# Altium schematic symbol library StandartComponents.SchLib: 23 symbols
Pins are listed as number, name and electrical type; pins without a type are passive.

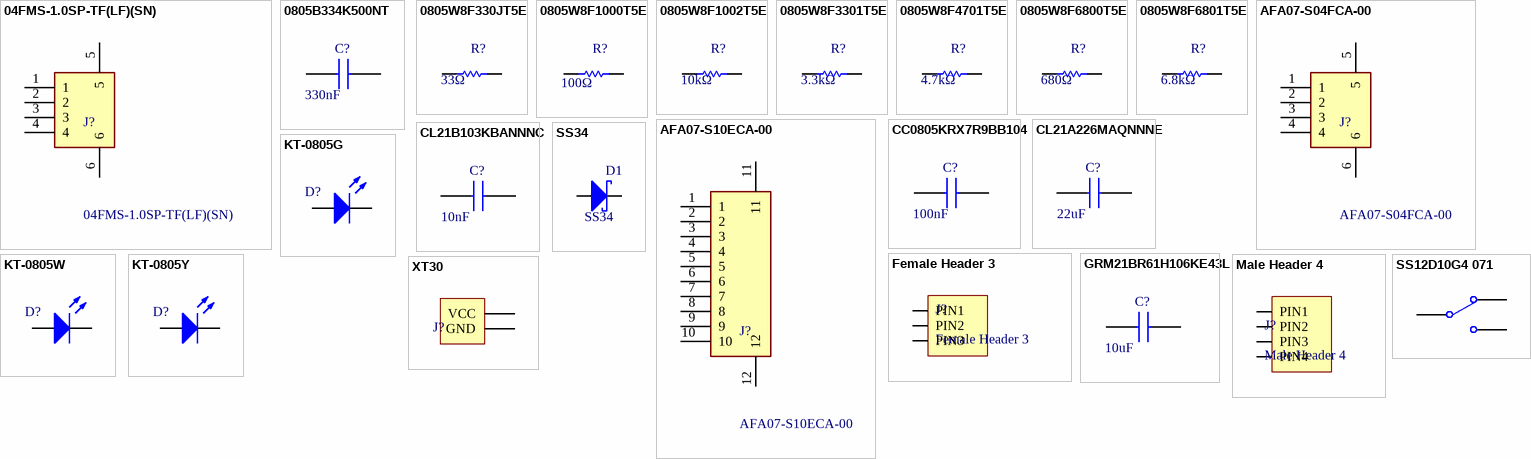
[diagram p0: symbols 04FMS-1.0SP-TF(LF)(SN) to XT30]

## 04FMS-1.0SP-TF(LF)(SN)
designator J?
Drawer Type 4P Dual-sided contacts / top and bottom connection Horizontal attachment 1mm SMD,P=1mm,Surface Mount，Right Angle FFC, FPC (Flat Flexible) Connector Assemblies ROHS; Manufacturer_Name: JST; Geometry.Height: 2.80mm; Manufacturer_Part_Number: 04FMS-1.0SP-TF(LF)(SN); LCSC: C265033; ComponentLink1Description: JLCPCB; ComponentLink1URL: https://jlcpcb.com/partdetail/Jst-04FMS_1_0SP_TF_LF_SN/C265033; ComponentLink2Description: Datasheet; ComponentLink2URL: https://www.lcsc.com/datasheet/lcsc_datasheet_1811061308_JST-04FMS-1-0SP-TF-LF-SN_C265033.pdf
footprint FPC-SMD-P1.00-4P_JST
pins: 1, 2, 3, 4, 5, 6

## 0805B334K500NT
designator C?  value 330nF  (hidden comment: 0805B334K500NT)
50V 330nF X7R ±10% 0805 Multilayer Ceramic Capacitors MLCC - SMD/SMT ROHS; Manufacturer: FH (Guangdong Fenghua Advanced Tech); Geometry.Height: 0.95mm; Part Number: 0805B334K500NT; LCSC: C1740; ComponentLink1Description: Datasheet; ComponentLink1URL: https://www.lcsc.com/datasheet/lcsc_datasheet_2304140030_FH--Guangdong-Fenghua-Advanced-Tech-0805B334K500NT_C1740.pdf; ComponentLink2Description: JLCPCB; ComponentLink2URL: https://jlcpcb.com/partdetail/2092-0805B334K500NT/C1740; Rated Voltage: 50V
footprint CAP0805
pins: 1, 2

## 0805W8F330JT5E
designator R?  value 33Ω  (hidden comment: 0805W8F330JT5E)
125mW Thick Film Resistors 150V ±1% ±200ppm/℃ 33Ω 0805 Chip Resistor - Surface Mount ROHS; Manufacturer_Name: UNI-ROYAL; Geometry.Height: 0.95mm; Part Number: 0805W8F330JT5E; LCSC: C17634; ComponentLink1Description: Datasheet Link; ComponentLink1URL: https://www.lcsc.com/datasheet/lcsc_datasheet_2205311830_UNI-ROYAL-Uniroyal-Elec-0805W8F330JT5E_C17634.pdf
footprint RES0805
pins: 1, 2

## 0805W8F1000T5E
designator R?  value 100Ω  (hidden comment: 0805W8F1000T5E)
125mW Thick Film Resistors 150V ±100ppm/℃ ±1% 100Ω 0805 Chip Resistor - Surface Mount ROHS; Manufacturer_Name: UNI-ROYAL; Geometry.Height: 0.95mm; Manufacturer_Part_Number: 0805W8F1000T5E; Datasheet Link: https://wmsc.lcsc.com/wmsc/upload/file/pdf/v2/lcsc/2206010216_UNI-ROYAL-Uniroyal-Elec-0805W8F1000T5E_C17408.pdf; LCSC: C17408
footprint RES0805
pins: 1, 2

## 0805W8F1002T5E
designator R?  value 10kΩ  (hidden comment: 0805W8F1002T5E)
125mW Thick Film Resistors 150V ±100ppm/℃ ±1% 10kΩ 0805 Chip Resistor - Surface Mount ROHS; Manufacturer_Name: UNI-ROYAL; Geometry.Height: 0.95mm; Manufacturer_Part_Number: 0805W8F1002T5E; Datasheet Link: https://wmsc.lcsc.com/wmsc/upload/file/pdf/v2/lcsc/2206010216_UNI-ROYAL-Uniroyal-Elec-0805W8F1002T5E_C17414.pdf; LCSC: C17414
footprint RES0805
pins: 1, 2

## 0805W8F3301T5E
designator R?  value 3.3kΩ  (hidden comment: 0805W8F3301T5E)
125mW Thick Film Resistors 150V ±100ppm/℃ ±1% 3.3kΩ 0805 Chip Resistor - Surface Mount ROHS; Manufacturer_Name: UNI-ROYAL; Geometry.Height: 0.95mm; Manufacturer_Part_Number: 0805W8F3301T5E; Datasheet Link: https://wmsc.lcsc.com/wmsc/upload/file/pdf/v2/lcsc/2206010045_UNI-ROYAL-Uniroyal-Elec-0805W8F3301T5E_C26010.pdf; LCSC: C26010
footprint RES0805
pins: 1, 2

## 0805W8F4701T5E
designator R?  value 4.7kΩ  (hidden comment: 0805W8F4701T5E)
125mW Thick Film Resistors 150V ±100ppm/℃ ±1% 4.7kΩ 0805 Chip Resistor - Surface Mount ROHS; Manufacturer_Name: UNI-ROYAL; Geometry.Height: 0.95mm; Manufacturer_Part_Number: 0805W8F4701T5E; Datasheet Link: https://wmsc.lcsc.com/wmsc/upload/file/pdf/v2/lcsc/2206010200_UNI-ROYAL-Uniroyal-Elec-0805W8F4701T5E_C17673.pdf; LCSC: C17673
footprint RES0805
pins: 1, 2

## 0805W8F6800T5E
designator R?  value 680Ω  (hidden comment: 0805W8F6800T5E)
125mW Thick Film Resistors 150V ±100ppm/℃ ±1% 680Ω 0805 Chip Resistor - Surface Mount ROHS; Manufacturer_Name: UNI-ROYAL; Geometry.Height: 0.95mm; Part Number: 0805W8F6800T5E; LCSC: C17798; ComponentLink1Description: Datasheet Link; ComponentLink1URL: https://www.lcsc.com/datasheet/lcsc_datasheet_2205311830_UNI-ROYAL-Uniroyal-Elec-0805W8F6800T5E_C17798.pdf
footprint RES0805
pins: 1, 2

## 0805W8F6801T5E
designator R?  value 6.8kΩ  (hidden comment: 0805W8F6801T5E)
125mW Thick Film Resistors 150V ±100ppm/℃ ±1% 6.8kΩ 0805 Chip Resistor - Surface Mount ROHS; Manufacturer_Name: UNI-ROYAL; Geometry.Height: 0.95mm; Part Number: 0805W8F6801T5E; Datasheet Link: https://wmsc.lcsc.com/wmsc/upload/file/pdf/v2/lcsc/2205311830_UNI-ROYAL-Uniroyal-Elec-0805W8F6801T5E_C17772.pdf; LCSC: C17772; ComponentLink1Description: Datasheet Link; ComponentLink1URL: https://wmsc.lcsc.com/wmsc/upload/file/pdf/v2/lcsc/2205311830_UNI-ROYAL-Uniroyal-Elec-0805W8F6801T5E_C17772.pdf
footprint RES0805
pins: 1, 2

## AFA07-S04FCA-00
designator J?
Drawer Type 4P Bottom Contact Horizontal attachment 1mm SMD,P=1mm,Surface Mount，Right Angle FFC, FPC (Flat Flexible) Connector Assemblies ROHS; Manufacturer_Name: JUSHUO; Geometry.Height: 2.50mm; Manufacturer_Part_Number: AFA07-S04FCA-00; Datasheet Link: https://www.lcsc.com/datasheet/lcsc_datasheet_2304140030_JUSHUO-AFA07-S04FCA-00_C262710.pdf; LCSC: C262710
footprint FPC-SMD-P1.00-4P_LCS-XJ-H2.5
pins: 1, 2, 3, 4, 5, 6

## AFA07-S10ECA-00
designator J?
Drawer Type 10P Contact,Top Horizontal attachment 1mm SMD,P=1mm,Surface Mount，Right Angle FFC, FPC (Flat Flexible) Connector Assemblies ROHS; Manufacturer_Name: JUSHUO; Geometry.Height: 2.50mm; Manufacturer_Part_Number: AFA07-S10ECA-00; Datasheet Link: https://wmsc.lcsc.com/wmsc/upload/file/pdf/v2/lcsc/2304140030_JUSHUO-AFA07-S10ECA-00_C262737.pdf; LCSC: C262737
footprint FPC-SMD-P1.00-10P_LCS-SJ-H2.5 (Drawer Type 10P Contact,Top Horizontal attachment 1mm SMD,P=1mm,Surface Mount，Right Angle FFC, FPC (Flat Flexible) Connector Assemblies ROHS)
pins: 1, 2, 3, 4, 5, 6, 7, 8, 9, 10, 11, 12

## CC0805KRX7R9BB104
designator C?  value 100nF  (hidden comment: CC0805KRX7R9BB104)
Multilayer Ceramic Capacitors MLCC - SMD/SMT 50 V 0.1uF X7R 0805 10%; Manufacturer_Name: YAGEO; Geometry.Height: 0.95mm; Manufacturer_Part_Number: CC0805KRX7R9BB104; Datasheet Link: https://www.yageo.com/upload/media/product/productsearch/datasheet/mlcc/UPY-GPHC_X7R_6.3V-to-50V_20.pdf; LCSC: C49678
footprint CAP0805
pins: 1, 2

## CL21A226MAQNNNE
designator C?  value 22uF  (hidden comment: CL21A226MAQNNNE)
25V 22uF X5R ±20% 0805 Multilayer Ceramic Capacitors MLCC - SMD/SMT ROHS; Manufacturer_Name: Samsung Electro-Mechanics; Geometry.Height: 0.95mm; Manufacturer_Part_Number: CL21A226MAQNNNE; LCSC: C45783; ComponentLink1Description: JLCPCB; ComponentLink1URL: https://jlcpcb.com/partdetail/46786-CL21A226MAQNNNE/C45783; ComponentLink2Description: Datasheet; ComponentLink2URL: https://www.lcsc.com/datasheet/lcsc_datasheet_2304140030_Samsung-Electro-Mechanics-CL21A226MAQNNNE_C45783.pdf
footprint CAP0805
pins: 1, 2

## CL21B103KBANNNC
designator C?  value 10nF  (hidden comment: CL21B103KBANNNC)
Multilayer Ceramic Capacitors MLCC - SMD/SMT 50 V 10nF X7R 0805 10%; Manufacturer_Name: YAGEO; Geometry.Height: 0.95mm; Manufacturer_Part_Number: CL21B103KBANNNC; Datasheet Link: https://wmsc.lcsc.com/wmsc/upload/file/pdf/v2/lcsc/2304140030_Samsung-Electro-Mechanics-CL21B103KBANNNC_C1710.pdf; LCSC: C1710
footprint CAP0805
pins: 1, 2

## Female Header 3
designator J?
Number of Contacts: 3; System: Connector
footprint FEMALE HEADER 3
pins: PIN1, PIN2, PIN3

## GRM21BR61H106KE43L
designator C?  value 10uF  (hidden comment: GRM21BR61H106KE43L)
50V 10uF X5R ±10% 0805 Multilayer Ceramic Capacitors MLCC - SMD/SMT ROHS; Manufacturer: Murata Electronics; Geometry.Height: 0.95mm; Part Number: GRM21BR61H106KE43L; LCSC: C440198; ComponentLink1Description: Datasheet; ComponentLink1URL: https://www.lcsc.com/datasheet/lcsc_datasheet_2310251059_Murata-Electronics-GRM21BR61H106KE43L_C440198.pdf; ComponentLink2Description: JLCPCB; ComponentLink2URL: https://jlcpcb.com/partdetail/439567-GRM21BR61H106KE43L/C440198; Rated Voltage: 50V
footprint CAP0805
pins: 1, 2

## KT-0805G
designator D?
Emerald 0805 LED Indication - Discrete ROHS; Manufacturer: Hubei KENTO Elec; Color: Green; Current - Forward (If): 20mA; Voltage - Forward (Vf): 2.6V; LCSC: C2297; Package / Case: 0805; ComponentLink2Description: Datasheet; ComponentLink2URL: https://www.lcsc.com/datasheet/lcsc_datasheet_1806151129_Hubei-KENTO-Elec-KT-0805Y_C2296.pdf
footprint LED0805
pins: A, K

## KT-0805W
designator D?
0805 LED Indication - Discrete ROHS; Manufacturer: Hubei KENTO Elec; Color: White; Current - Forward (If): 25mA; Voltage - Forward (Vf): 2.8V; LCSC: C34499; Package / Case: 0805; ComponentLink2Description: Datasheet; ComponentLink2URL: https://www.lcsc.com/datasheet/lcsc_datasheet_2305091500_Hubei-KENTO-Elec-KT-0805W_C34499.pdf; ComponentLink3Description: JLCPCB; ComponentLink3URL: https://jlcpcb.com/partdetail/Hubei_KentoElec-KT0805W/C34499
footprint LED0805
pins: A, K

## KT-0805Y
designator D?
Yellow 0805 LED Indication - Discrete ROHS; Manufacturer: Hubei KENTO Elec; Current - Forward (If): 20mA; Voltage - Forward (Vf): 2.1V; LCSC: C2296; Package / Case: 0805; Color: Yellow; ComponentLink2Description: Datasheet; ComponentLink2URL: https://www.lcsc.com/datasheet/lcsc_datasheet_1806151129_Hubei-KENTO-Elec-KT-0805Y_C2296.pdf
footprint LED0805
pins: A, K

## Male Header 4
designator J?
Number of Contacts: 4; Library Ref: Header
footprint MALE HEADER 4
pins: PIN1, PIN2, PIN3, PIN4

## SS12D10G4 071
designator SW?  (value not drawn)
Manufacturer: SHOU HAN(首韩); LSCS: C2887259; Add into BOM: yes; Circuit: SPDT; Pin Style: PCPin; Switch Length: 12.7mm; Switch Width: 6.7mm; Switch Height: 6.4mm; Current Rating (DC): 2A; Voltage Rating (DC): 125V; Mechanical Life: 3千次; Symbol: SS12D10G4 071; Device: SS12D10G4 071; LCSC Part Name: SS12D10G4 071; Manufacturer Part: SS12D10G4 071; Supplier Footprint: 插件; JLCPCB Part Class: Extended Part; Datasheet: https://atta.szlcsc.com/upload/public/pdf/source/20210820/80D1704BBF3FCEE0435FCAA54C61E0A3.pdf; Supplier: LCSC; Convert to PCB: yes; Actuator Style: -; Mounting Style: Straight; Actuator Color: -; Current Rating (AC): -; Voltage Rating (AC): -; Operating Temperature: -16℃~+60℃
footprint SW-TH_SHOU-HAN_SS12D10G4
pins: 1, 2 COMMON, 3 NO

## SS34
designator D1
40V Independent Type 3A 550mV@3A SMA(DO-214AC) Schottky Diodes ROHS; Manufacturer: MDD(Microdiode Semiconductor); Max Forward Surge Current (Ifsm): 80 A; Current - Reverse Leakage @ Vr: 500 mA; Voltage - Forward (Vf) (Max) @ If: 550 mV; Diode Type: Schottky Barrier Rectifier; Part Number: SS34; Category: Schottky Diodes & Rectifiers; Package / Case: SMA(DO-214AC); Current - Average Rectified (Io): 3 A; Operating Temperature: - 55ºC ~ 125ºC; Voltage - DC Reverse (Vr) (Max): 40 V; ComponentLink1Description: JLCPCB; ComponentLink1URL: https://jlcpcb.com/partdetail/mdd_microdiode_semiconductor-SS34/C8678; ComponentLink2Description: Datasheet; ComponentLink2URL: https://www.lcsc.com/datasheet/lcsc_datasheet_2407101107_MDD-Microdiode-Semiconductor-SS34_C8678.pdf
footprint SMA_L4.3-W2.6-LS5.2-RD
pins: A, C

## XT30
designator J?, comment BATTERY  (value not drawn)
CONN BATTERY HORZ 2POS XT30; Library Control - Checked Footprint: Under review; Library Control - Checked Schematic: Yes; Library Control - Last Project that Used: Follow-Final; Library Control - Person that Checked Footprint: Lucas; Library Control - Person that did the Last Update Footprint: Mateus(Dimas); Library Control - Last Update: 24/04/2021 00:25; Library Control - Person that Checked Schematic: Lucas; Library Control - Person that did the Last Update Schematic: Mateus(Dimas); ComponentLink1Description: Supplier Link; ComponentLink1URL: https://www.gobilda.com/right-angle-pcb-mount-xt30-connector-mh-fc-2-pack/
footprint XT30 (Header, Vertical, 2.54 mm pitch; 0.66 mm lead width, 5 pins, 1 row, 5 pins per row, 12.70 mm L X 2.49 mm W X 9.02 mm H body)
pins: 1 VCC, 2 GND